# EAGLE library part ABX00053 (library ABX00053 NANO)
Check availability <https://pricing.snapeda.com/parts/ABX00053/Arduino/view-part?ref=eda>
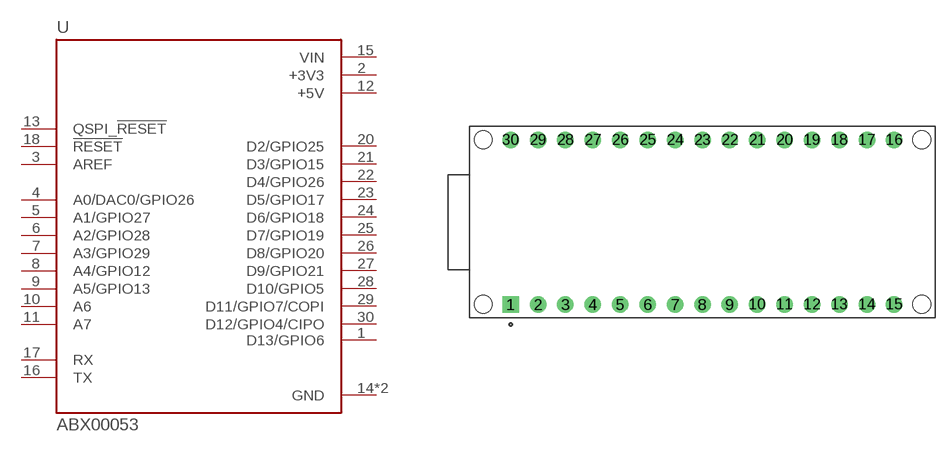
[diagram p0: symbol with the pads of MODULE_ABX00053; footprint MODULE_ABX00053]

Designator prefix U

## ABX00053 (Availability: In Stock; Check_prices: https://www.snapeda.com/parts/ABX00053/Arduino/view-part/?ref=eda; Description: The Arduino Nano RP2040 Connect with Headers (ABX00053) is a development board featuring the ARM® Cortex®-M0+ MCU, specifically the Raspberry Pi RP2040. This board includes the NINA-W102 module for seamless WiFi and Bluetooth connectivity, making it ideal for IoT applications. It offers a comprehensive set of GPIOs, including 22 digital, 8 analog, and 2 PWM pins, and supports the Arduino Nano interconnect system. With a processor clock speed of 133 MHz and a logic level voltage of 3.3V, this board is breadboard-friendly and compatible with the Arduino IDE for easy programming.; MF: Arduino; MP: ABX00053; Package: None; Price: None; SnapEDA_Link: https://www.snapeda.com/parts/ABX00053/Arduino/view-part/?ref=snap)  [MODULE_ABX00053]
1  D13/GPIO6
2  +3V3  pwr
3  AREF
4  A0/DAC0/GPIO26
5  A1/GPIO27
6  A2/GPIO28
7  A3/GPIO29
8  A4/GPIO12
9  A5/GPIO13
10  A6
11  A7
12  +5V  pwr
13  QSPI_!RESET  in
14  GND  pwr
15  VIN  pwr
16  TX
17  RX
18  !RESET  in
19  GND  pwr
20  D2/GPIO25
21  D3/GPIO15
22  D4/GPIO26
23  D5/GPIO17
24  D6/GPIO18
25  D7/GPIO19
26  D8/GPIO20
27  D9/GPIO21
28  D10/GPIO5
29  D11/GPIO7/COPI
30  D12/GPIO4/CIPO

## Footprint MODULE_ABX00053 (pad centres in mm)
drill 1.016 square: 1 -17.78,-7.62
drill 1.016: 2 -15.24,-7.62; 3 -12.7,-7.62; 4 -10.16,-7.62; 5 -7.62,-7.62; 6 -5.08,-7.62; 7 -2.54,-7.62; 8 0,-7.62; 9 2.54,-7.62; 10 5.08,-7.62; 11 7.62,-7.62; 12 10.16,-7.62; 13 12.7,-7.62; 14 15.24,-7.62; 15 17.78,-7.62; 16 17.78,7.62; 17 15.24,7.62; 18 12.7,7.62; 19 10.16,7.62; 20 7.62,7.62; 21 5.08,7.62; 22 2.54,7.62; 23 0,7.62; 24 -2.54,7.62; 25 -5.08,7.62; 26 -7.62,7.62; 27 -10.16,7.62; 28 -12.7,7.62; 29 -15.24,7.62; 30 -17.78,7.62
hole 1.65 at -20.32,-7.62
hole 1.65 at -20.32,7.62
hole 1.65 at 20.32,7.62
hole 1.65 at 20.32,-7.62